# Altium schematic symbol library RAK4200.SchLib: 8 symbols
Pins are listed as number, name and electrical type; pins without a type are passive.

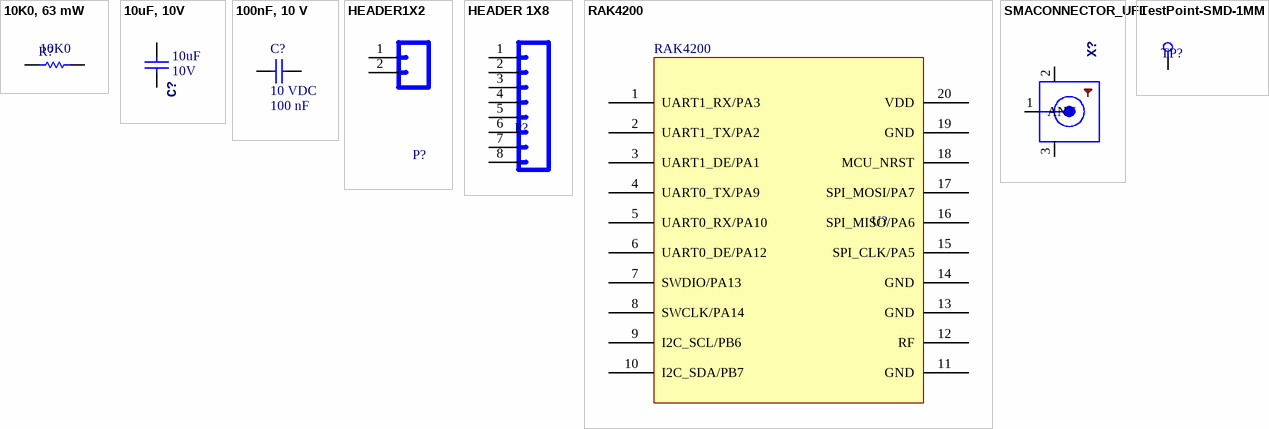
[diagram p0: symbols 10K0, 63 mW to TestPoint-SMD-1MM]

## 10K0, 63 mW
designator R?, comment value 10K0  (hidden comment: CRCW040210K0FKTD)
Resistor; Manufacturer 1: VISHAY DALE; Supplier 1: Newark; Manufacturer Part Number: CRCW040210K0FKTD; RoHS: NO; Stock 1: 12163; Pricing 1: 1=0.073, 10=0.039, 100=0.023, 1000=0.019 (USD); ComponentLink1URL: http://www.farnell.com/datasheets/1914725.pdf; ComponentLink1Description: http://www.farnell.com/datasheets/1914725.pdf; Supplier Part Number 1: 96C9543
footprint 0402_RES
pins: 1, 2

## 10uF, 10V
designator C?, comment Capacitance: 10uF  Voltage Rating DC: 10V  (hidden comment: ZRB15XR61A106ME01D)
Cap_Cer; Manufacturer: Murata Electronics; Tolerance: 20 %; Type: General Purpose Multilayer Ceramic Chip Capacitor; Class: Class 2; Dielectric: X5R; Supplier 1: Mouser; Manufacturer Part Number: ZRB15XR61A106ME01D; RoHS: RoHS Compliant; Category: Multilayer Ceramic Capacitors MLCC - SMD/SMT; Stock 1: 361820; Pricing 1: 1=0.624, 10=0.436, 100=0.261, 500=0.196, 1000=0.165, 2500=0.137, 5000=0.129, 8000=0.117, 24000=0.113 (MXN); Height: 0.65 mm; Length: 1 mm; Package / Case: 0402 (1005 metric); Packaging: Cut Tape; Product: General Type MLCCs; Series: ZRB; Termination Style: SMD/SMT; Width: 0.5 mm; Brand: Murata Electronics; Case Code - in: 0402; Case Code - mm: 1005; Maximum Operating Temperature: + 85 C; Minimum Operating Temperature: - 55 C; Product Type: Ceramic Capacitors; Standard Pack Qty: 8000; Subcategory: Capacitors; Termination: Interposer Substrate; RoHS - Mouser: Y; Minimum Order Quantity: 1; Reeling: True; ComponentLink1URL: https://www.mouser.com/datasheet/2/281/ZRB15XR61A106ME01-01-1771691.pdf; ComponentLink1Description: https://www.mouser.com/datasheet/2/281/ZRB15XR61A106ME01-01-1771691.pdf; Supplier Part Number 1: 81-ZRB15XR61A106ME1D
footprint C0402
pins: 1, 2

## 100nF, 10 V
designator C?  Voltage Rating DC: 10 VDC  Capacitance - nF: 100 nF  (hidden comment: 100nF, 10 V)
Cap_Cer; Manufacturer: Murata Electronics; Manufacturer Part Number: GRM155R71A104KA01D; Capacitance: 0.1 uF; Tolerance: 10 %; Type: General Purpose MLCC; Capacitance - pF: 100000 pF; Dielectric: X7R; Qualification: Commercial; Supplier 1: Mouser; RoHS: RoHS Compliant; Category: Multilayer Ceramic Capacitors MLCC - SMD/SMT; Stock 1: 259611; Pricing 1: 1=0.100, 10=0.006, 100=0.004, 500=0.003, 10000=0.003 (USD); Height: 0.5 mm; Length: 1 mm; Package / Case: 0402 (1005 metric); Packaging: Reel; Product: General Type MLCCs; Series: GRM; Termination Style: SMD/SMT; Width: 0.5 mm; Brand: Murata Electronics; Case Code - in: 0402; Case Code - mm: 1005; Maximum Operating Temperature: + 125 C; Minimum Operating Temperature: - 55 C; Standard Pack Qty: 10000; RoHS - Mouser: Y; Minimum Order Quantity: 1; Reeling: True; ComponentLink1URL: http://www.mouser.com/ds/2/281/c02e-2905.pdf; ComponentLink1Description: http://www.mouser.com/ds/2/281/c02e-2905.pdf; Supplier Part Number 1: 81-GRM155R71A104KA1D
footprint C0402
pins: 1, 2

## HEADER1X2
designator P?, comment 452-00009  (value not drawn)
HEADER1X2; Manufacturer: Parallax; Accessory Type: Jumper (Shunt); Mounting Angle: Straight; Number of Positions: 2 Position; Pitch: 2.54 mm; Latching Type: Unlatched; Supplier 1: Mouser; Manufacturer Part Number: 452-00009; RoHS: RoHS Compliant; Category: Headers & Wire Housings; Stock 1: 900; Pricing 1: 1=1.29, 5=1.28 (MXN); Number of Rows: 1 Row; Product: Accessories; Type: -; Brand: Parallax; Product Type: Headers & Wire Housings; Standard Pack Qty: 1; Subcategory: Headers & Wire Housings; RoHS - Mouser: Y; Minimum Order Quantity: 1; Reeling: False; Supplier Part Number 1: 619-452-00009
footprint HDR1X2
pins: 1, 2

## HEADER 1X8
designator P?, comment 68000-236HLF  (value not drawn)
HEADER 1X8; Manufacturer: Amphenol FCI; Current Rating: 3 A; Mounting Angle: Straight; Number of Positions: 36 Position; Voltage Rating: 1.5 kV; Pitch: 2.54 mm; Insulation Resistance: 5 GOhms; Mating Post Length: 5.84 mm; Supplier 1: Mouser; Manufacturer Part Number: 68000-236HLF; RoHS: RoHS Compliant; Category: Headers & Wire Housings; Stock 1: 1164; Pricing 1: 1=1.89, 10=1.65, 100=1.47, 200=1.42, 500=1.23, 1000=1.00 (MXN); Contact Plating: Gold; Housing Material: Thermoplastic (TP); Number of Rows: 1 Row; Packaging: Bulk; Product: Headers; Termination Style: Solder Pin; Type: Pin Strip; Brand: Amphenol FCI; Contact Material: Phosphor Bronze; Flammability Rating: UL 94 V-0; Mounting Style: -; Contact Gender: Pin (Male); Housing Color: Black; Housing Gender: -; Maximum Operating Temperature: + 125 C; Minimum Operating Temperature: - 65 C; Product Type: Headers & Wire Housings; Standard Pack Qty: 100; Subcategory: Headers & Wire Housings; Termination Post Length: 2.41 mm; Tradename: BergStik; RoHS - Mouser: Y; Minimum Order Quantity: 1; Reeling: False; ComponentLink1URL: https://www.mouser.com/datasheet/2/18/68000-1266375.pdf; ComponentLink1Description: https://www.mouser.com/datasheet/2/18/68000-1266375.pdf; Supplier Part Number 1: 649-68000-236HLF
footprint HEADER1X8 (HEAD15-NOSS)
pins: 1, 2, 3, 4, 5, 6, 7, 8

## RAK4200
designator U?
MODULO LORA; Manufacturer 1: RAK; Manufacturer Part Number: RAK4200 LoRa® Module - US915; ComponentLink1URL: https://store.rakwireless.com/products/rak4200-lora-module?variant=36313266356382; Part Number: RAK4200
footprint RAK4200
pins: 1 UART1_RX/PA3, 2 UART1_TX/PA2, 3 UART1_DE/PA1, 4 UART0_TX/PA9, 5 UART0_RX/PA10, 6 UART0_DE/PA12, 7 SWDIO/PA13, 8 SWCLK/PA14, 9 I2C_SCL/PB6, 10 I2C_SDA/PB7, 11 GND, 12 RF, 13 GND, 14 GND, 15 SPI_CLK/PA5, 16 SPI_MISO/PA6, 17 SPI_MOSI/PA7, 18 MCU_NRST, 19 GND, 20 VDD

## SMACONNECTOR_UFL
designator X?, comment RECE.20279.001E.01  (value not drawn)
Connector UFL; Manufacturer: Taoglas; Supplier 1: Mouser; Manufacturer Part Number: RECE.20279.001E.01; RoHS: RoHS Compliant; Category: RF Connectors / Coaxial Connectors; Stock 1: 0; Brand: Taoglas; Product Type: RF Connectors / Coaxial Connectors; Subcategory: RF Interconnects; Minimum Order Quantity: 1; Reeling: False; Supplier Part Number 1: N/A
footprint U.FL
footprint U.FL
pins: 1 ANT, 2 GND (power), 3 GND (power)

## TestPoint-SMD-1MM
designator TP?  (value not drawn)
TestPoint-SMD; Manufacturer: Keystone Electronics; Manufacturer Part Number: 5000; Mounting Hole Size: 1 mm; Outside Diameter: 2.54 mm; Plating: Silver; Supplier 1: Mouser; RoHS: RoHS Compliant; Category: Circuit Board Hardware - PCB; Stock 1: 104084; Pricing 1: 1=0.416, 10=0.389, 50=0.295, 100=0.281, 250=0.255, 500=0.241, 1000=0.200, 3000=0.192, 6000=0.174 (MXN); Color: Red; Length: 7.62 mm; Material: Nylon; Packaging: Bulk; Product: Test Points; Type: Miniature; Brand: Keystone Electronics; Contact Material: Phosphor Bronze; Product Type: Circuit Board Hardware - PCB; Standard Pack Qty: 100; Subcategory: Hardware; RoHS - Mouser: Y; Minimum Order Quantity: 1; Reeling: False; ComponentLink1URL: http://www.mouser.com/datasheet/2/215/000-5004-741320.pdf; ComponentLink1Description: http://www.mouser.com/datasheet/2/215/000-5004-741320.pdf; Supplier Part Number 1: 534-5000
footprint TestPoint - SMD_1mm
pins: 1